# EAGLE library part MC33039DR2G (library KylePile)
Closed Loop Brushless Motor Adapter, http://www.digikey.com/product-detail/en/on-semiconductor/MC33039DR2G/MC33039DR2GOSCT-ND/2120787
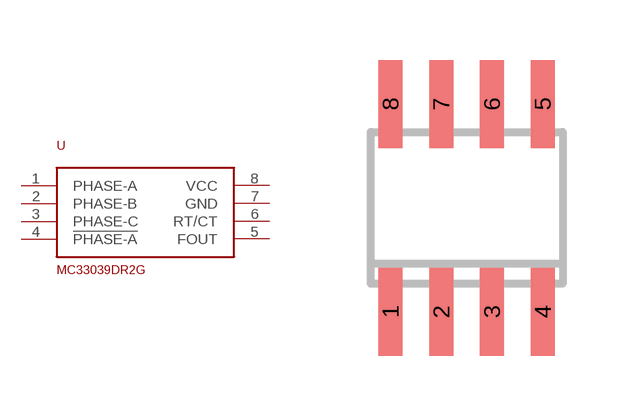
[diagram p29: symbol with the pads of SOIC8; footprint SOIC8]

Designator prefix -

## MC33039DR2G  [SOIC8]
1  PHASE-A
2  PHASE-B
3  PHASE-C
4  !PHASE-A
5  FOUT
6  RT/CT
7  GND
8  VCC

## Footprint SOIC8 (pad centres in mm)
Small Outline IC
smd 0.6 x 2.2: 1 -1.905,-2.6; 2 -0.635,-2.6; 3 0.635,-2.6; 4 1.905,-2.6; 5 1.905,2.6; 6 0.635,2.6; 7 -0.635,2.6; 8 -1.905,2.6